# EAGLE library part SW_DIP-8 (library ds_passive)
DIP SWITCH
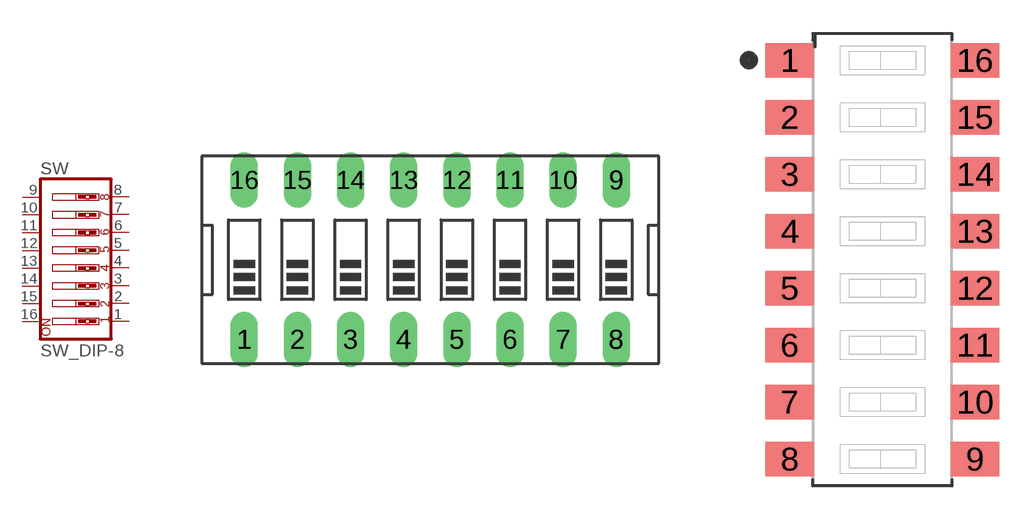
[diagram p2: symbol with the pads of EDG-08; footprints EDG-08, 1-1825006-5]

Designator prefix SW

## SW_DIP-8 (DESCRIPTION: 8-bit Blue 5 Thousand Times Flat Toggle, Raised Style DIP Switches ROHS; LCSC_PART: C5299520; VALUE: SMQS-08B-TP)  [EDG-08]
1  1  pas
2  2  pas
3  3  pas
4  4  pas
5  5  pas
6  6  pas
7  7  pas
8  8  pas
9  9  pas
10  10  pas
11  11  pas
12  12  pas
13  13  pas
14  14  pas
15  15  pas
16  16  pas

## SW_DIP-8-DSIC08LS-P (DESCRIPTION: 8-bit SPST 24V 25mA Black 3000 Times Flat Toggle, Raised Style SMD-16P,6x20.3mm DIP Switches ROHS; LCSC_PART: C319032; VALUE: DSIC08LS-P)  [1-1825006-5]
Pads as for EDG-08

## Footprint EDG-08 (pad centres in mm)
DIP SWITCH
drill 0.813 long: 1 -8.89,-3.81; 2 -6.35,-3.81; 3 -3.81,-3.81; 4 -1.27,-3.81; 5 1.27,-3.81; 6 3.81,-3.81; 7 6.35,-3.81; 8 8.89,-3.81; 9 8.89,3.81; 10 6.35,3.81; 11 3.81,3.81; 12 1.27,3.81; 13 -1.27,3.81; 14 -3.81,3.81; 15 -6.35,3.81; 16 -8.89,3.81

## Footprint 1-1825006-5 (pad centres in mm)
smd 2.15 x 1.52: 1 -4.13,8.89; 2 -4.13,6.35; 3 -4.13,3.81; 4 -4.13,1.27; 5 -4.13,-1.27; 6 -4.13,-3.81; 7 -4.13,-6.35; 8 -4.13,-8.89; 9 4.13,-8.89; 10 4.13,-6.35; 11 4.13,-3.81; 12 4.13,-1.27; 13 4.13,1.27; 14 4.13,3.81; 15 4.13,6.35; 16 4.13,8.89